# Altium footprint library ConectorsCirc.PcbLib: 6 footprints
Each footprint in its own frame and in the unit in brackets; x right, y up, seen from the top. Pads: shape width x height; smd on the part's side, far side on the other; paste and mask are expansions set on the pad; w line width, h text height; cw(c..) or ccw(c..) is an arc to the next point about the centre after c.
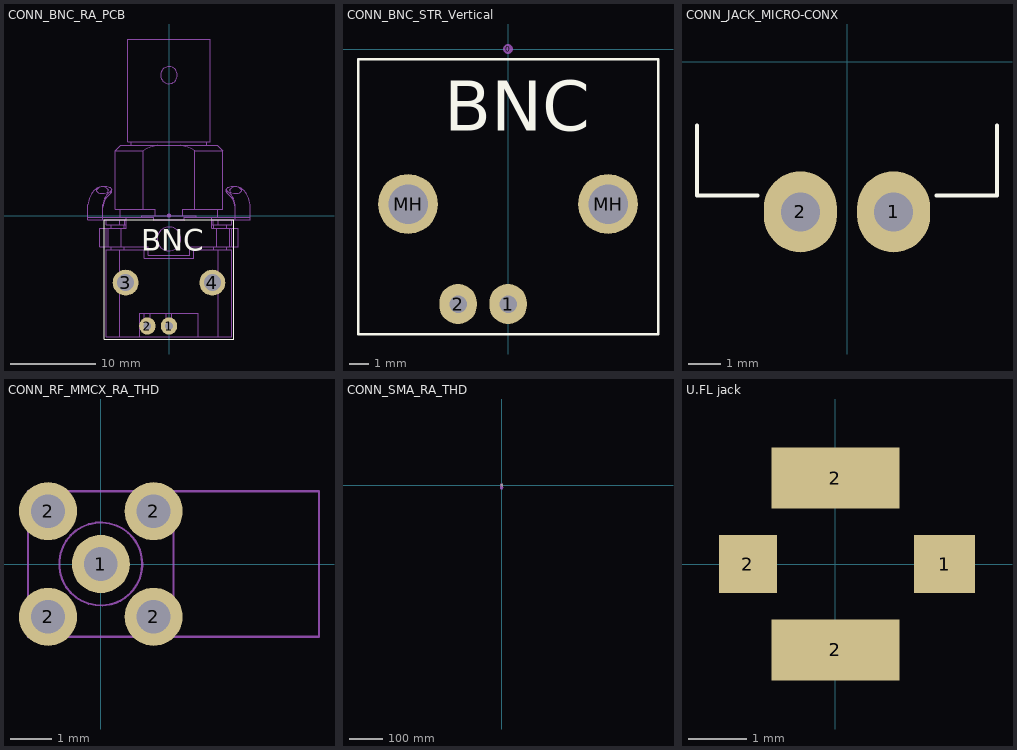
[diagram p0: the footprints below, top view; thin cyan lines are the x and y axes]

## CONN_BNC_RA_PCB [mil] "BNC connector, right angle PCB-mounted"
height 530
pads (5):
  round 20 on Mech15: 0(0,0)
  oval 75x80 hole 35: 1(0,-510) 2(-100,-510)
  round 120 hole 79: 3(-200,-310) 4(200,-310)
Top Overlay:
  lines w5: -300,-570 300,-570 300,-20 -300,-20 -300,-570
  text "BNC" at -127.35,-163 h100
Mechanical 13:
  drawing of 173 lines, arcs and shapes, not listed
3D body "BNC Conn RA PCB Mount.STEP": height 532, standoff -135, extent -375,-559.78 375,815.22

## CONN_BNC_STR_Vertical [mil] "BNC connector, right angle PCB-mounted"
height 530
pads (5):
  round 20 on Mech15: 0(0,0)
  oval 75x80 hole 35: 1(0,-510) 2(-100,-510)
  round 120 hole 79: MH(-200,-310) MH(200,-310)
Top Overlay:
  lines w5: -300,-570 300,-570 300,-20 -300,-20 -300,-570
  text "BNC" at -127.35,-163 h100
3D body "11962.stp": height 0, standoff -1625, extent 434.5,313.25 1015.5,938

## CONN_JACK_MICRO-CONX [mil] "Micro-ConX 17292-2PG-300"
height 480
pads (2):
  oval 90x100 hole 48: 1(57.5,-185) 2(-57.5,-185)
Top Overlay:
  lines w5: -185,-78.74 -185,-165 -110.24,-165 ; 110.24,-165 185,-165 185,-78.74
3D body "Micro-ConX for PCB mount.STEP": height 476.88, standoff -146.88, extent -312.51,-205 310.03,547.5

## CONN_RF_MMCX_RA_THD [mil] "RF connector, right-angle THD, TE 1-1634010-0 or TE 1408151"
height 149.61
pads (5):
  round 55 hole 32: 1(0,0) 2(-50,-50) 2(-50,50) 2(50,-50) 2(50,50)
Mechanical 13:
  circle w1.97: c0,0 r13.78
  circle w1.97: c-0.09,0.01 r39.37
  lines w1.97: -68.9,-39.37 -39.37,-39.37 -39.37,-68.9 ; -68.9,39.37 -39.37,39.37 -39.37,68.9 ; -38.07,-9.54 ccw(c-3.54,-2.06) -29.28,-26.26 ; 9.57,-38.16 ccw(c1.62,-3.49) 26.2,-29.2 ; 29.21,26.34 cw(c3.99,2.19) 38.14,9.49 ; 37.1,-13.16 ccw(c4.48,-1.02) 39.27,-2.07 ; 39.37,-68.9 39.37,-39.37 68.9,-39.37 ; 39.37,68.9 39.37,39.37 68.9,39.37 ; 68.9,-68.9 68.9,68.9 ; -68.9,-68.9 206.69,-68.9 206.69,68.9 -68.9,68.9 -68.9,-68.9 ; -59.84,-59.84 -40.16,-59.84 -40.16,-40.16 -59.84,-40.16 -59.84,-59.84 ; -59.84,40.16 -40.16,40.16 -40.16,59.84 -59.84,59.84 -59.84,40.16 ; 40.16,-59.84 40.16,-40.16 59.84,-40.16 59.84,-59.84 40.16,-59.84 ; 40.16,40.16 40.16,59.84 59.84,59.84 59.84,40.16 40.16,40.16
3D body "MMCX connector 1408151-1.STEP": height 149.61, standoff -118.11, extent -68.89,-68.89 206.7,68.9

## CONN_SMA_RA_THD [mm]
height 10.43
pads (5):
  round 2.5 hole 1.5: 1(0,0)
  round 2.5 hole 1.6: 2(-2.54,-2.54) 2(-2.54,2.54) 2(2.54,-2.54) 2(2.54,2.54)
Mechanical 13:
  drawing of 402 lines, arcs and shapes, not listed
3D body "SMA Conn TE 5-1814400-1.STEP": height 10.43, standoff -3.41, extent -3.173,-11.05 3.167,3.15

## U.FL jack [mm] "U.FL smd jack AMPhenol RF AMC series"
height 1.25
pads (4):
  rect 1.05x1 smd: 1(1.875,0)
  rect 1x1 smd: 2(-1.5,0)
  rect 2.2x1.05 smd: 2(0,-1.475) 2(0,1.475)
3D body "u.Fl Antenna Connector - 523-A-1JB.SLDPRT": height 1.25, standoff 0, extent -1.5,-1.5 1.6,1.5